# Altium footprint library Buzzer_Beeper.PcbLib: 2 footprints
Each footprint in its own frame and in the unit in brackets; x right, y up, seen from the top. Pads: shape width x height; smd on the part's side, far side on the other; paste and mask are expansions set on the pad; w line width, h text height; cw(c..) or ccw(c..) is an arc to the next point about the centre after c.
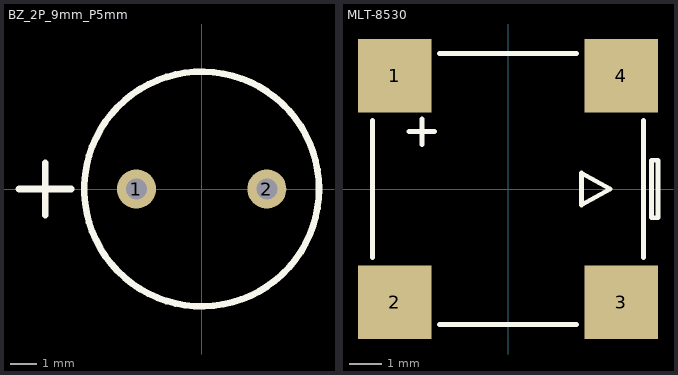
[diagram p0: the footprints below, top view; thin cyan lines are the x and y axes]

## BZ_2P_9mm_P5mm [mm]
pads (2):
  round 1.5 hole 0.8: 1(-2.5,0) 2(2.5,0)
Top Overlay:
  circle w0.254: c0,0 r4.5
  lines w0.254: -7,0 -5,0 ; -6,-1 -6,1

## MLT-8530 [mm]
pads (4):
  rect 2.3x2.3 smd: 1(-3.55,3.55) 2(-3.55,-3.55) 3(3.55,-3.55) 4(3.55,3.55)
Top Overlay:
  lines w0.152: -4.25,-2.15 -4.25,2.15 ; -3.1,1.8 -2.3,1.8 ; -2.7,1.4 -2.7,2.2 ; -2.15,-4.25 2.15,-4.25 ; -2.15,4.25 2.15,4.25 ; 4.25,-2.15 4.25,2.15 ; 2.3,-0.5 2.3,0.5 3.2,0 2.3,-0.5 ; 4.5,-0.9 4.7,-0.9 4.7,0.9 4.5,0.9 4.5,-0.9
3D body "User Library-YX7525P.STEP": height 2.5, standoff -0.01, extent -3.75,-3.75 3.75,3.75